# EAGLE library part MPU6000 (library sensors)
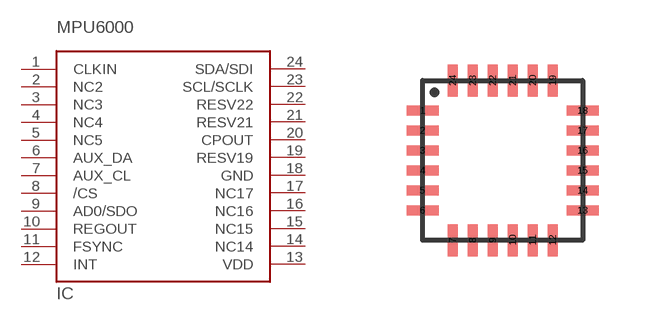
[diagram p1: symbol with the pads of QFN24; footprint QFN24]

Designator prefix IC

## MPU6000  [QFN24]
1  CLKIN  in
2  NC2  nc
3  NC3  nc
4  NC4  nc
5  NC5  nc
6  AUX_DA
7  AUX_CL  in
8  /CS  in
9  AD0/SDO
10  REGOUT  out
11  FSYNC
12  INT  out
13  VDD  pwr
14  NC14  nc
15  NC15  nc
16  NC16  nc
17  NC17  nc
18  GND  pwr
19  RESV19  nc
20  CPOUT  out
21  RESV21  nc
22  RESV22  nc
23  SCL/SCLK  oc
24  SDA/SDI

## Footprint QFN24 (pad centres in mm)
smd 0.8 x 0.25: 1 -2,1.25; 2 -2,0.75; 3 -2,0.25; 4 -2,-0.25; 5 -2,-0.75; 6 -2,-1.25; 13 2,-1.25; 14 2,-0.75; 15 2,-0.25; 16 2,0.25; 17 2,0.75; 18 2,1.25
smd 0.25 x 0.8: 7 -1.25,-2; 8 -0.75,-2; 9 -0.25,-2; 10 0.25,-2; 11 0.75,-2; 12 1.25,-2; 19 1.25,2; 20 0.75,2; 21 0.25,2; 22 -0.25,2; 23 -0.75,2; 24 -1.25,2